# Altium footprint library PcbLib1.PcbLib: 1 footprints
Each footprint in its own frame and in the unit in brackets; x right, y up, seen from the top. Pads: shape width x height; smd on the part's side, far side on the other; paste and mask are expansions set on the pad; w line width, h text height; cw(c..) or ccw(c..) is an arc to the next point about the centre after c.
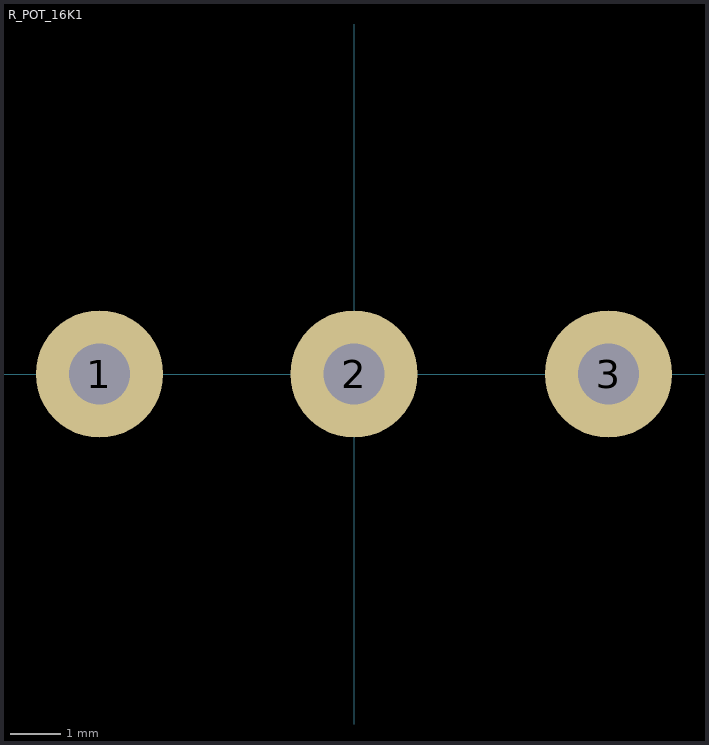
[diagram p0: the footprint, top view; thin cyan lines are the x and y axes]

## R_POT_16K1 [mm]
pads (3):
  round 2.5 hole 1.2 mask+0.025: 1(-5,0) 2(0,0) 3(5,0)